# Altium schematic symbol library active.SchLib: 13 symbols
Pins are listed as number, name and electrical type; pins without a type are passive.

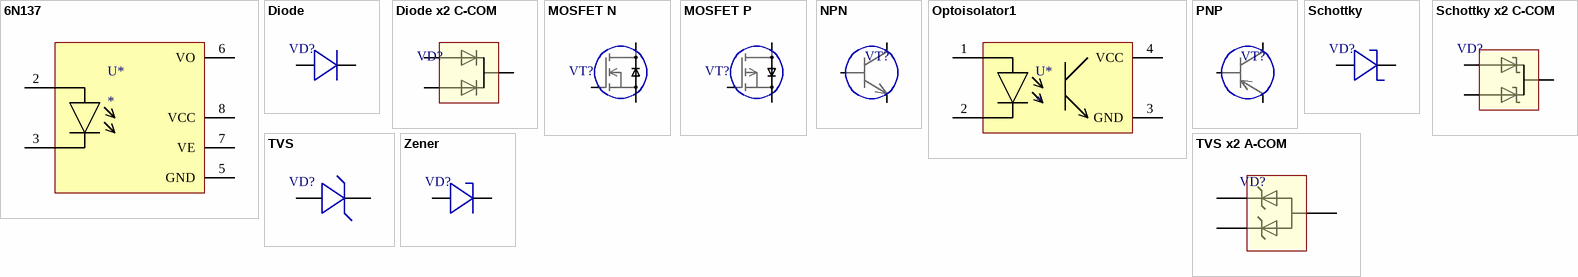
[diagram p0: symbols 6N137 to Zener]

## 6N137
designator U*
footprint PDIP-8
pins: 2, 3, 5 GND, 6 VO, 7 VE, 8 VCC

## Diode
designator VD?
Diode
footprint DO214AA/SMB (SMB diode package)
footprint DO214AC/SMA (SMA diode package)
footprint SOT23-3 (SOT23, 3 pins); pin to pad 2>3
footprint DO-35
pins: 1, 2

## Diode x2 C-COM
designator VD?
Diode x2 C-COM
footprint TO252AA/DPAK (TO252AA/DPAK package)
footprint SOT23-3 (SOT23, 3 pins)
pins: 1, 2, 3

## MOSFET N
designator VT?
MOSFET N
footprint TO263-2/D2PAK-2 (TO263/D2PAK package); pin to pad D>3 G>1 S>2
footprint SOT23-3 (SOT23, 3 pins); pin to pad D>3 G>1 S>2
footprint SOT223 (SOT223, 4-Leads, Body 6.50x7.00mm (avg), Pitch 2.30mm, IPC Medium Density); pin to pad D>2 G>1 S>3
footprint TO-247_HOR
pins: D "Drain", G "Gate", S "Source"

## MOSFET P
designator VT?
MOSFET P
pins: D "Drain", G "Gate", S "Source"

## NPN
designator VT?
NPN
pins: B "Base", C "Collector", E "Emitter"

## Optoisolator1
designator U*
footprint SMD-4
pins: 1, 2, 3 GND, 4 VCC

## PNP
designator VT?
PNP
pins: B "Base", C "Collector", E "Emitter"

## Schottky
designator VD?
Schottky diode
footprint DO214AC/SMA (SMA diode package)
footprint DO214AA/SMB (SMB diode package)
footprint TO252AA/DPAK (TO252AA/DPAK package); pin to pad 2>3
pins: 1, 2

## Schottky x2 C-COM
designator VD?
Schottky x2 C-COM
footprint TO252AA/DPAK (TO252AA/DPAK package)
footprint SOT23-3 (SOT23, 3 pins)
footprint TO-220 HOR (TO-220 package)
footprint TO-220 (TO-220 package)
pins: 1, 2, 3

## TVS
designator VD?
TVS
footprint SOT23-3 (SOT23, 3 pins); pin to pad 2>3
footprint DO-27 / DO-201
pins: 1, 2

## TVS x2 A-COM
designator VD?
TVS x2
footprint SOT23-3 (SOT23, 3 pins)
pins: 1, 2, 3

## Zener
designator VD?
Schottky diode
footprint DO214AC/SMA (SMA diode package)
footprint DO214AA/SMB (SMB diode package)
footprint TO252AA/DPAK (TO252AA/DPAK package); pin to pad 2>3
footprint DO-35
footprint DO-27 / DO-201
pins: 1, 2